# Altium footprint library ProjetPcbLib1.PcbLib: 18 footprints (part 2 of 2)
Each footprint in its own frame and in the unit in brackets; x right, y up, seen from the top. Pads: shape width x height; smd on the part's side, far side on the other; paste and mask are expansions set on the pad; w line width, h text height; cw(c..) or ccw(c..) is an arc to the next point about the centre after c.
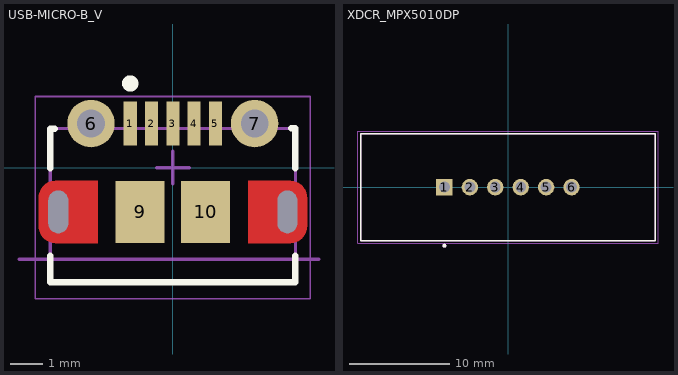
[diagram p1: the footprints below, top view; thin cyan lines are the x and y axes]

## USB-MICRO-B_V [mm] "USB, MICRO B, Body 7.491x4.695 mm, Pitch 0.65 mm"
height 2.673
pads (11):
  rect 0.4x1.35 smd: 1(-1.3,1.35) 2(-0.65,1.35) 3(0,1.35) 4(0.65,1.35) 5(1.3,1.35)
  round 1.45 hole 0.85: 6(-2.5,1.35) 7(2.5,1.35)
  rrect50% 0x0 hole 0.6 slot 1.3 at 90 deg: 8(-3.5,-1.35) 11(3.5,-1.35)
  rect 1.5x1.9 smd: 9(-1,-1.35) 10(1,-1.35)
Top Layer:
  circle w0.5: c3.6,-0.9 r0.25
  circle w0.5: c3.6,-1.8 r0.25
  circle w0.5: c-3.6,-0.9 r0.25
  circle w0.5: c-3.6,-1.8 r0.25
  region: -2.3,-2.3 -2.3,-0.4 -3.6,-0.4 -3.6,-2.3
  region: 2.3,-0.4 2.3,-2.3 3.6,-2.3 3.6,-0.4
  region: 3.6,-0.9 3.6,-1.8 4.1,-1.8 4.1,-0.9
  region: -3.6,-1.8 -3.6,-0.9 -4.1,-0.9 -4.1,-1.8
Top Overlay:
  circle w0.25: c-1.3,2.575 r0.125
  lines w0.2: -3.745,-2.688 -3.745,-3.5 3.745,-3.5 3.745,-2.688 ; -3.745,-0.012 -3.745,1.195 -3.614,1.195 ; 3.615,1.2 3.745,1.2 3.745,-0.012
Mechanical 1:
  lines w0.1: -4.7,-2.8 4.465,-2.8
  text "PCB EDGE" at -7.2,-2.9 h0.3
Mechanical 13:
  lines w0.1: -3.75,1.2 3.745,1.2 3.745,-3.5 -3.745,-3.5 -3.745,1.195
Mechanical 15:
  lines w0.05: -4.2,-4 -4.2,2.175 4.2,2.175 4.2,-4 -4.2,-4
  lines w0.1: -0.5,0 0.5,0 ; 0,-0.5 0,0.5
3D body "1050170001.stp": height 2.67, standoff -0.63, extent -4.1,-3.9 4.1,1.5

## XDCR_MPX5010DP [mm]
pads (6):
  rect 1.64x1.64 hole 1.09: 1(-6.35,0)
  round 1.64 hole 1.09: 2(-3.81,0) 3(-1.27,0) 4(1.27,0) 5(3.81,0) 6(6.35,0)
Top Overlay:
  circle w0.2: c-6.35,-5.85 r0.1
  lines w0.127: -14.733,-5.335 -14.733,5.335 14.733,5.335 14.733,-5.335 -14.733,-5.335
Mechanical 13:
  circle w0.2: c-6.35,-5.85 r0.1
  lines w0.127: -14.733,-5.335 -14.733,5.335 14.733,5.335 14.733,-5.335 -14.733,-5.335
Mechanical 15:
  lines w0.05: -14.982,-5.585 -14.982,5.585 14.982,5.585 14.982,-5.585 -14.982,-5.585
3D body "MPX5010DP--3DModel-STEP-56544.STEP": height 32.58, standoff -6.1, extent -14.732,-5.74 14.732,5.715